# Altium schematic symbol library SCH_Passive.SchLib: 21 symbols
Pins are listed as number, name and electrical type; pins without a type are passive.

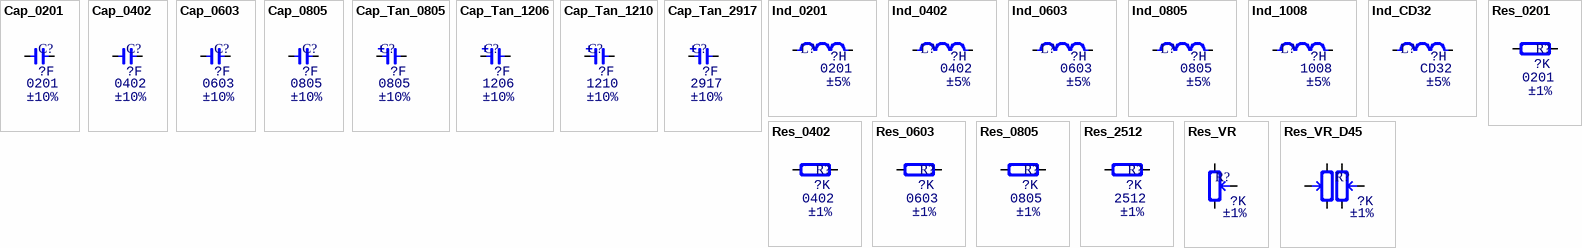
[diagram p0: symbols Cap_0201 to Res_VR_D45]

## Cap_0201
designator C?, comment value ?F  Note: ±10%  Type: 0201  (hidden comment: C0201)
Capacitor; Specification: X7R, ±10%, 16V; Manufacturer: *
footprint CAP_0201
pins: 1, 2

## Cap_0402
designator C?, comment value ?F  Note: ±10%  Type: 0402  (hidden comment: C0402)
Capacitor; Specification: X7R, ±10%, 16V; Manufacturer: *
footprint CAP_0402
pins: 1, 2

## Cap_0603
designator C?, comment value ?F  Note: ±10%  Type: 0603  (hidden comment: C0603)
Capacitor; Specification: X7R, ±10%, 16V; Manufacturer: *
footprint CAP_0603
pins: 1, 2

## Cap_0805
designator C?, comment value ?F  Note: ±10%  Type: 0805  (hidden comment: C0805)
Capacitor; Specification: X7R, ±10%, 16V; Manufacturer: *
footprint CAP_0805
pins: 1, 2

## Cap_Tan_0805
designator C?, comment value ?F  Note: ±10%  Type: 0805  (hidden comment: C0805)
Capacitor Tantalum; Specification: X7R, ±10%, 16V; Manufacturer: *
footprint CAP_TAN_P0805
pins: 1, 2
1 alternate drawing of the same symbol

## Cap_Tan_1206
designator C?, comment value ?F  Note: ±10%  Type: 1206  (hidden comment: C1206)
Capacitor Tantalum; Specification: X7R, ±10%, 16V; Manufacturer: *
footprint CAP_TAN_A1206
pins: 1, 2
1 alternate drawing of the same symbol

## Cap_Tan_1210
designator C?, comment value ?F  Note: ±10%  Type: 1210  (hidden comment: C1210)
Capacitor Tantalum; Specification: X7R, ±10%, 16V; Manufacturer: *
footprint CAP_TAN_B1210
pins: 1, 2
1 alternate drawing of the same symbol

## Cap_Tan_2917
designator C?, comment value ?F  Note: ±10%  Type: 2917  (hidden comment: C2917)
Capacitor Tantalum; Specification: X7R, ±10%, 16V; Manufacturer: *
footprint CAP_TAN_D2917
pins: 1, 2
1 alternate drawing of the same symbol

## Ind_0201
designator L?, comment value ?H  Note: ±5%  Type: 0201  (hidden comment: H0201)
Inductor; Specification: High frequency chip inductor ±5%; Manufacturer: *
footprint IND_0201
pins: 1, 2

## Ind_0402
designator L?, comment value ?H  Note: ±5%  Type: 0402  (hidden comment: H0402)
Inductor; Specification: High frequency chip inductor ±5%; Manufacturer: *
footprint IND_0402
pins: 1, 2

## Ind_0603
designator L?, comment value ?H  Note: ±5%  Type: 0603  (hidden comment: H0603)
Inductor; Specification: High frequency chip inductor ±5%; Manufacturer: *
footprint IND_0603
pins: 1, 2

## Ind_0805
designator L?, comment value ?H  Note: ±5%  Type: 0805  (hidden comment: H0805)
Inductor; Specification: High frequency chip inductor ±5%; Manufacturer: *
footprint IND_0805
pins: 1, 2

## Ind_1008
designator L?, comment value ?H  Note: ±5%  Type: 1008  (hidden comment: H1008)
Inductor; Specification: High frequency chip inductor ±5%; Manufacturer: *
footprint IND_1008
pins: 1, 2

## Ind_CD32
designator L?, comment value ?H  Note: ±5%  (hidden comment: CD32)
Power Inductor; Specification: High frequency chip inductor ±5%; Manufacturer: *; Type: CD32
footprint IND_CD32
pins: 1, 2

## Res_0201
designator R?, comment value ?K  Note: ±1%  Type: 0201  (hidden comment: R0201)
Resistor; Manufacturer: *; Specification: ±1%
footprint RES_0201
pins: 1, 2

## Res_0402
designator R?, comment value ?K  Note: ±1%  Type: 0402  (hidden comment: R0402)
Resistor; Manufacturer: *; Specification: ±1%
footprint RES_0402
pins: 1, 2

## Res_0603
designator R?, comment value ?K  Note: ±1%  Type: 0603  (hidden comment: R0603)
Resistor; Manufacturer: *; Specification: ±1%
footprint RES_0603
pins: 1, 2

## Res_0805
designator R?, comment value ?K  Note: ±1%  Type: 0805  (hidden comment: R0805)
Resistor; Manufacturer: *; Specification: ±1%
footprint RES_0805
pins: 1, 2

## Res_2512
designator R?, comment value ?K  Note: ±1%  Type: 2512  (hidden comment: R2512)
Resistor; Manufacturer: *; Specification: ±1%
footprint RES_2512
pins: 1, 2

## Res_VR
designator R?, comment value ?K  Note: ±1%  (hidden comment: VR)
Resistor Variable; Manufacturer: *; Specification: ±1%; Type: VR
footprint RES_VR_Gear
pins: 1, 2, 3

## Res_VR_D45
designator R?, comment value ?K  Note: ±1%  (hidden comment: VR_D45)
Resistor Variable; Manufacturer: *; Specification: ±1%; Type: VR_D45
footprint RES_VR_D45mm
pins: 1 U, 2 W, 3 U, 4 W, 5 D, 6 D